# EAGLE library part _CON_MOD_6P6C_H_(44144-0005) (library SamacSys_Parts)
Modular Jack Right Angle 6/6 RJ11 SMT Molex 6P6C Right Angle Surface Mount RJ11 Modular Jack Connector Source: Datasheet
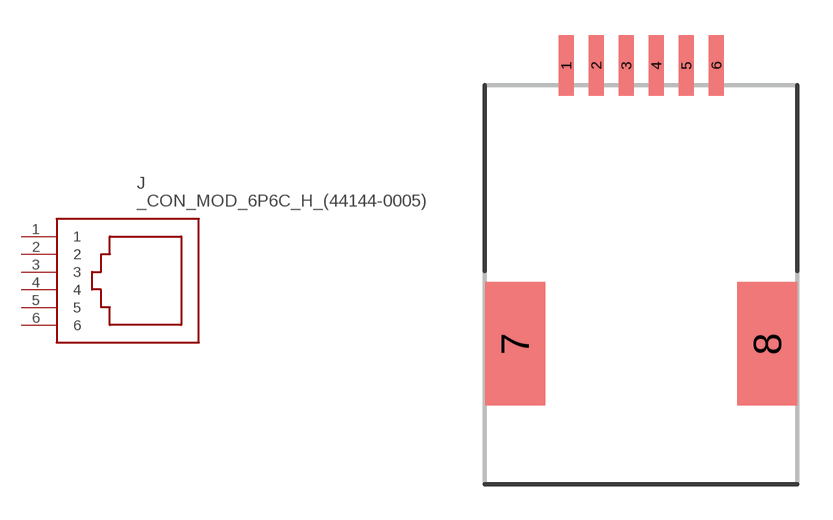
[diagram p13: symbol with the pads of 44144-0005; footprint 44144-0005]

Designator prefix J

## _CON_MOD_6P6C_H_(44144-0005) (DESCRIPTION: Modular Jack Right Angle 6/6 RJ11 SMT Molex 6P6C Right Angle Surface Mount RJ11 Modular Jack Connector; HEIGHT: mm; MANUFACTURER_NAME: Molex; MANUFACTURER_PART_NUMBER: 44144-0005; MOUSER_PART_NUMBER: 538-44144-0005; MOUSER_PRICE-STOCK: https://www.mouser.co.uk/ProductDetail/Molex/44144-0005/?qs=ZZBj1wiNDbm%252Bf2RfZLkcfA%3D%3D)  [44144-0005]
1  1
2  2
3  3
4  4
5  5
6  6

## Footprint 44144-0005 (pad centres in mm)
44144-0005
smd 0.64 x 2.54: 1 -3.175,0; 2 -1.905,0; 3 -0.635,0; 4 0.635,0; 5 1.905,0; 6 3.175,0
smd 2.54 x 5.21: 7 -5.33,-11.775; 8 5.33,-11.775